# Altium schematic symbol library Dual_P_FET.Schlib: 1 symbol
Pins are listed as number, name and electrical type; pins without a type are passive.

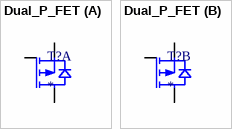
[diagram p0: symbol Dual_P_FET]

## Dual_P_FET
designator T?
part A pins: D1, G1, S1
part B pins: 3 D2, 5 G2, S2